# Altium footprint library MPC6050.PcbLib: 3 footprints
Each footprint in its own frame and in the unit in brackets; x right, y up, seen from the top. Pads: shape width x height; smd on the part's side, far side on the other; paste and mask are expansions set on the pad; w line width, h text height; cw(c..) or ccw(c..) is an arc to the next point about the centre after c.
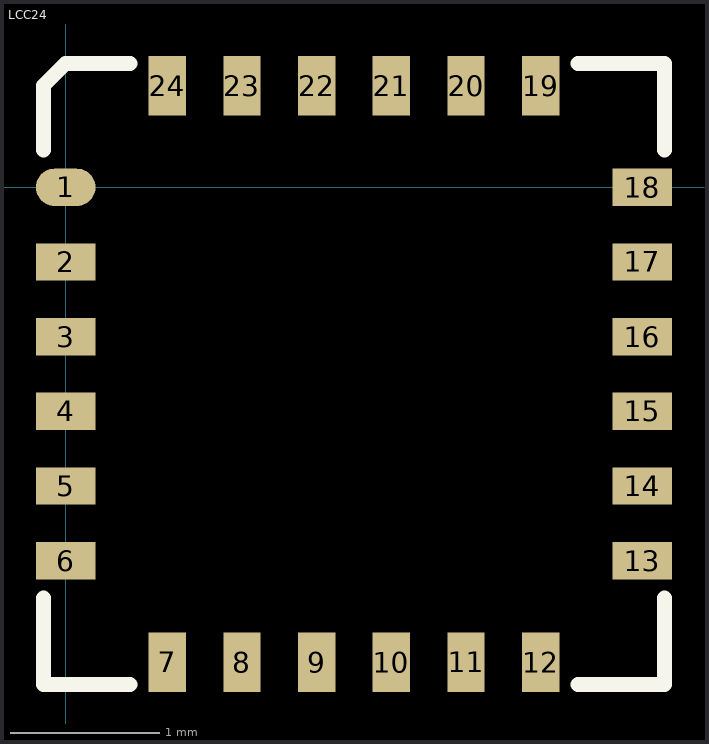
[diagram p0: the footprints below, top view; thin cyan lines are the x and y axes]

## LCC24 [mm]
pads (24):
  oval 0.4x0.25 smd: 1(0,0)
  rect 0.4x0.25 smd: 2(0,-0.5) 3(0,-1) 4(0,-1.5) 5(0,-2) 6(0,-2.5) 13(3.86,-2.5) 14(3.86,-2) 15(3.86,-1.5) 16(3.86,-1) 17(3.86,-0.5) 18(3.86,0)
  rect 0.25x0.4 smd: 7(0.68,-3.18) 8(1.18,-3.18) 9(1.68,-3.18) 10(2.18,-3.18) 11(2.68,-3.18) 12(3.18,-3.18) 19(3.18,0.68) 20(2.68,0.68) 21(2.18,0.68) 22(1.68,0.68) 23(1.18,0.68) 24(0.68,0.68)
Top Overlay:
  lines w0.1: -0.15,-2.75 -0.15,-3.33 0.43,-3.33 ; -0.15,0.25 -0.15,0.68 0,0.83 0.43,0.83 ; 3.43,-3.33 4.01,-3.33 4.01,-2.75 ; 3.43,0.83 4.01,0.83 4.01,0.25

## MPC6050 [mm]

## PCBComponent_1 [mm]